# EAGLE library part 6N137 (library charger-sw)
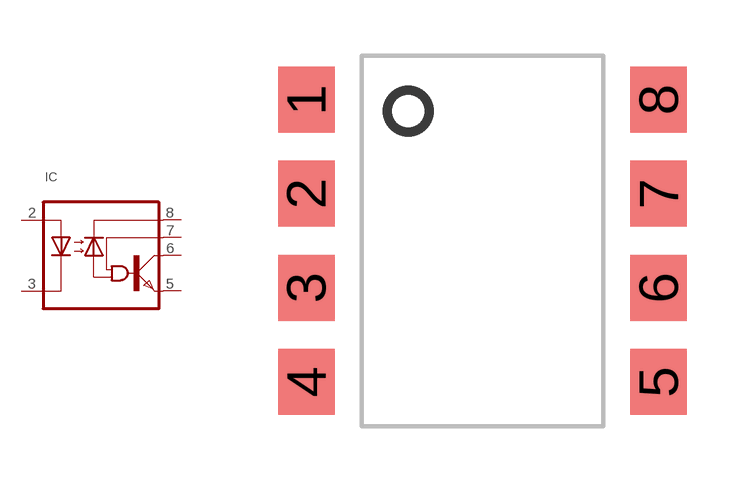
[diagram p0: symbol with the pads of DIP-8-SMD; footprint DIP-8-SMD]

Designator prefix IC

## 6N137S (PARTNO: 6N137S)  [DIP-8-SMD]
2  ANODE  pas
3  CATHODE  pas
5  GND  pas
6  VO  pas
7  EN  pas
8  VCC  pas

## Footprint DIP-8-SMD (pad centres in mm)
smd 1.52 x 1.78: 1 -4.75,3.81; 2 -4.75,1.27; 3 -4.75,-1.27; 4 -4.75,-3.81; 5 4.75,-3.81; 6 4.75,-1.27; 7 4.75,1.27; 8 4.75,3.81